# Altium footprint library MOD-E73-2G4M08S1C.PcbLib: 1 footprints
Each footprint in its own frame and in the unit in brackets; x right, y up, seen from the top. Pads: shape width x height; smd on the part's side, far side on the other; paste and mask are expansions set on the pad; w line width, h text height; cw(c..) or ccw(c..) is an arc to the next point about the centre after c.
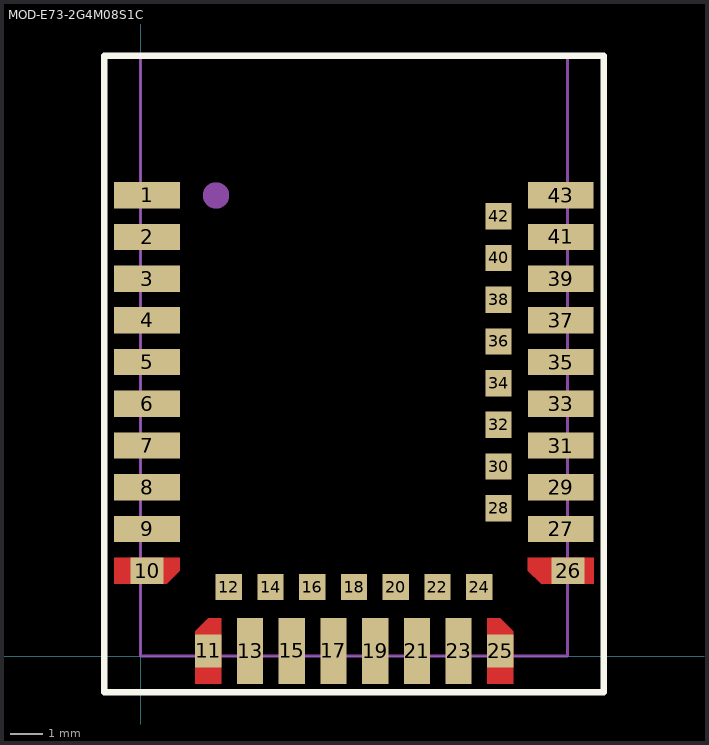
[diagram p0: the footprint, top view; thin cyan lines are the x and y axes]

## MOD-E73-2G4M08S1C [mm]
pads (43):
  rect 2x0.8 smd: 1(0.2,14.03) 2(0.2,12.76) 3(0.2,11.49) 4(0.2,10.22) 5(0.2,8.95) 6(0.2,7.68) 7(0.2,6.41) 8(0.2,5.14) 9(0.2,3.87) 27(12.795,3.87) 29(12.795,5.14) 31(12.795,6.41) 33(12.795,7.68) 35(12.795,8.95) 37(12.795,10.22) 39(12.795,11.49) 41(12.795,12.76) 43(12.795,14.03)
  rect 1x0.8 smd: 10(0.2,2.6) 26(13.02,2.6)
  rect 0.8x1 smd: 11(2.065,0.155) 25(10.955,0.155)
  rect 0.8x0.8 smd: 12(2.69,2.1) 14(3.96,2.1) 16(5.23,2.1) 18(6.5,2.1) 20(7.77,2.1) 22(9.04,2.1) 24(10.31,2.1) 28(10.9,4.5) 30(10.9,5.77) 32(10.9,7.04) 34(10.9,8.31) 36(10.9,9.58) 38(10.9,10.85) 40(10.9,12.12) 42(10.9,13.39)
  rect 0.8x2 smd: 13(3.335,0.155) 15(4.605,0.155) 17(5.875,0.155) 19(7.145,0.155) 21(8.415,0.155) 23(9.685,0.155)
Top Layer:
  region: 2.465,-0.85 2.465,1.155 2.065,1.155 1.665,0.755 1.665,-0.85
  region: 10.555,-0.85 10.555,1.155 10.955,1.155 11.355,0.755 11.355,-0.85
  region: -0.805,3 1.2,3 1.2,2.6 0.8,2.2 -0.805,2.2
  region: 13.8,3 11.795,3 11.795,2.6 12.195,2.2 13.8,2.2
Top Overlay:
  lines w0.2: -1.1,-1.1 14.1,-1.1 14.1,18.275 -1.1,18.275 -1.1,-1.1
Top Assembly:
  circle w0.6: c2.3,14.025 r0.1
  lines w0.1: 0,0 0,18.275 13,18.275 13,0 0,0
  text "'.Designator'" at 2.85,9.55 h0.7
3D body "User Library-E73-2G4M08S1C.step": height 3, standoff -0.05, extent 0,0 13,18.288
3D body: height 0.3, standoff 0, extent -7.825,8.825 -7.825,8.825
3D body: height 0.3, standoff 0, extent 20.125,8.9 20.125,8.9